# EAGLE library part RGB_6 (library led)
RGB LED 6000mcd http://tuxotronic.org/mirror/led_rgb/
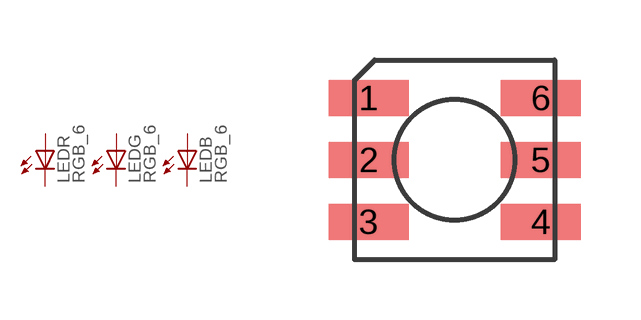
[diagram p0: symbol with the pads of 5050_PLCC6; footprint 5050_PLCC6]

Designator prefix LED; gates R=LED G=LED B=LED

## RGB_6-5050  [5050_PLCC6]
1  R:A  pas
2  G:A  pas
3  B:A  pas
4  B:C  pas
5  G:C  pas
6  R:C  pas

## Footprint 5050_PLCC6 (pad centres in mm)
PLCC-6 5x5mm
smd 2 x 0.9: 1 -2.15,1.55; 2 -2.15,0; 3 -2.15,-1.55; 4 2.15,-1.55; 5 2.15,0; 6 2.15,1.55